# EAGLE library part ISO7221ADR (library DigitalICs)
ISO7221 Dual Channel Digital Isolator from Texas Instruments. See Datasheet for more info Datasheet <http://www.ti.com/lit/ds/symlink/iso7220a.pdf>
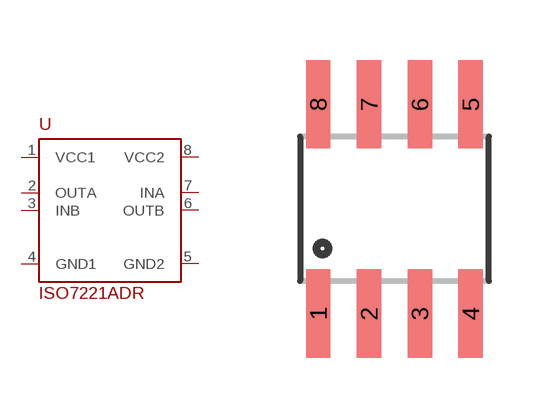
[diagram p1: symbol with the pads of SO08; footprint SO08]

Designator prefix U

## ISO7221ADR (DIGIKEYPART#: 296-21955-1-ND)  [SO08]
1  VCC1
2  OUTA
3  INB
4  GND1
5  GND2
6  OUTB
7  INA
8  VCC2

## Footprint SO08 (pad centres in mm)
Small Outline Package Fits JEDEC packages (narrow SOIC-8)
smd 0.61 x 2.21: 1 -1.905,-2.616; 2 -0.635,-2.616; 3 0.635,-2.616; 4 1.905,-2.616; 5 1.905,2.616; 6 0.635,2.616; 7 -0.635,2.616; 8 -1.905,2.616